# EAGLE library part TPS54202 (library agsys-valvecontrol)
TPS54202 Buck Converter
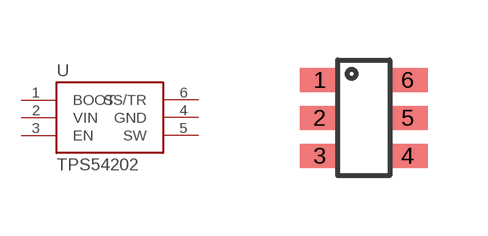
[diagram p5: symbol with the pads of SOT-23-6; footprint SOT-23-6]

Designator prefix U

## TPS54202  [SOT-23-6]
1  BOOT
2  VIN  pwr
3  EN  in
4  GND  pwr
5  SW  out
6  SS/TR

## Footprint SOT-23-6 (pad centres in mm)
SOT-23-6 - TPS54202
smd 1 x 0.6: 1 -1.1,0.95; 2 -1.1,0; 3 -1.1,-0.95; 4 1.1,-0.95; 5 1.1,0; 6 1.1,0.95